# EAGLE library part ARDUINO_PRO_MICRO (library 000_nl2)
Arduino Pro Micro This is the ATMEL 328U board on a 24 DIL form as released by SparkFun
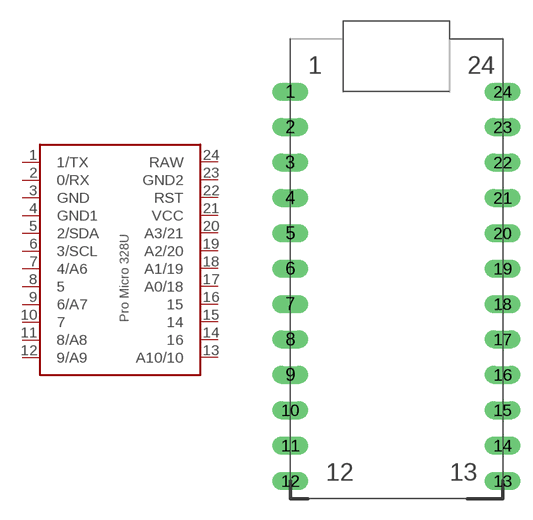
[diagram p25: symbol with the pads of DIL24-6; footprint DIL24-6]

Designator prefix -

## ARDUINO_PRO_MICRO  [DIL24-6]
1  1/TX
2  0/RX
3  GND  in
4  GND1  in
5  2/SDA
6  3/SCL
7  4/A6
8  5
9  6/A7
10  7
11  8/A8
12  9/A9
13  A10/10
14  16
15  14
16  15
17  A0/18
18  A1/19
19  A2/20
20  A3/21
21  VCC  in
22  RST  in
23  GND2  in
24  RAW  pwr

## Footprint DIL24-6 (pad centres in mm)
drill 0.8 long: 1 0,0; 2 0,-2.54; 3 0,-5.08; 4 0,-7.62; 5 0,-10.16; 6 0,-12.7; 7 0,-15.24; 8 0,-17.78; 9 0,-20.32; 10 0,-22.86; 11 0,-25.4; 12 0,-27.94; 13 15.24,-27.94; 14 15.24,-25.4; 15 15.24,-22.86; 16 15.24,-20.32; 17 15.24,-17.78; 18 15.24,-15.24; 19 15.24,-12.7; 20 15.24,-10.16; 21 15.24,-7.62; 22 15.24,-5.08; 23 15.24,-2.54; 24 15.24,0